# EAGLE library part BME280 (library RoboJackets-Sensors)
Humidity Temperature Sensor 0 ~ 100% RH I²C, SPI ±3% Surface Mount Datasheet <https://ae-bst.resource.bosch.com/media/_tech/media/datasheets/BST-BME280-DS002.pdf>
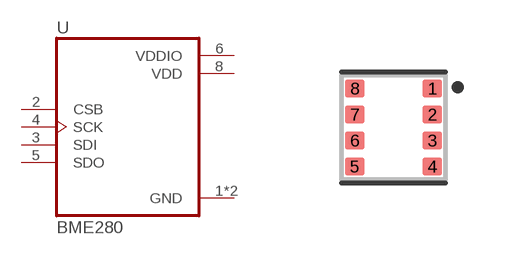
[diagram p4: symbol with the pads of PSON65P250X250X100-8N; footprint PSON65P250X250X100-8N]

Designator prefix U

## BME280 (DKPN: 828-1063-1-ND)  [PSON65P250X250X100-8N]
1  GND  pwr
2  CSB  in
3  SDI
4  SCK  in
5  SDO
6  VDDIO  pwr
7  GND  pwr
8  VDD  pwr

## Footprint PSON65P250X250X100-8N (pad centres in mm)
2.5 mm x 2.5 mm x 0.93 mm metal lid LGA
smd 0.49 x 0.45: 1 0.97,0.975; 2 0.97,0.325; 3 0.97,-0.325; 4 0.97,-0.975; 5 -0.97,-0.975; 6 -0.97,-0.325; 7 -0.97,0.325; 8 -0.97,0.975